# Altium integrated library BC817.IntLib: 1 symbol
Pins are listed as number, name and electrical type; pins without a type are passive.

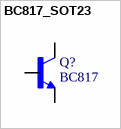
[diagram p0: symbol BC817_SOT23]

## BC817_SOT23
designator Q?, comment BC817
Bipolar Transistor NPN 45V 500mA 100MHz; MF: Nexperia USA; Availability: Unavailable; Package: SOT-23-3 Rectron; Price: None; SnapEDA_Link: https://www.snapeda.com/parts/BC817/Nexperia%20USA%20Inc./view-part/4219270/?ref=snap; Value: *; MP: BC817; Supplier 1: RSComponents; Supplier Part Number 1: 0463616
footprint SOT23 (SOT23, 3-Leads, Body 3.0x1.4mm (max), Pitch 0.95mm, IPC Medium Density)
pins: 1 B, 2 E, 3 C